# EAGLE library part CONN-6 (library Hoektronics)
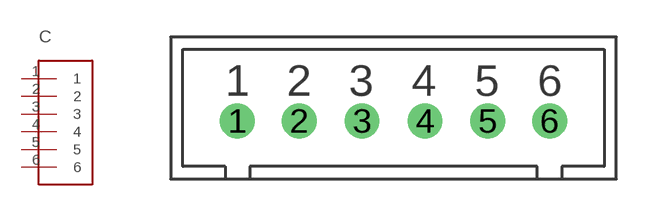
[diagram p16: symbol with the pads of XH-6; footprint XH-6]

Designator prefix C

## CONN-6  [XH-6]
1  1
2  2
3  3
4  4
5  5
6  6

## Footprint XH-6 (pad centres in mm)
drill 0.9: 1 -6.31,0; 2 -3.81,0; 3 -1.27,0; 4 1.27,0; 5 3.81,0; 6 6.31,0